# EAGLE library part NE5534 (library common)
Low-noise, high-SP audio Op Amp.
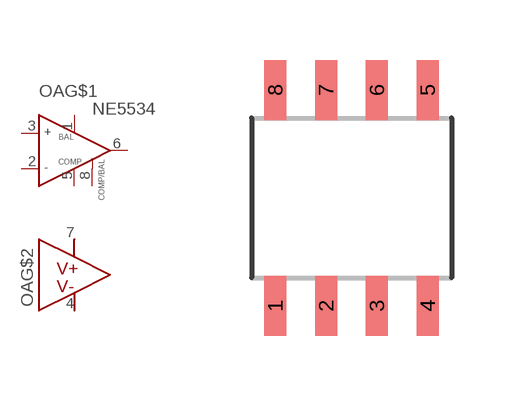
[diagram p0: symbol with the pads of SOIC-8; footprint SOIC-8]

Designator prefix OA; gates G$1=OPAMP1 G$2=OPAMP_PWR

## NE5534SOIC8, NE5534ADSOIC8 (BIAS_CURRENT: 500nA; CMRR: 100dB; GAIN_BANDWIDTH_PRODUCT: 10MHz; IN-VOL_NOISE_DENSITY: 3.5nV; OFFSET_VOL: 500uV; OUTPUT_CURRENT: 38mA; SLEW_RATE: 13V/uS; SUPPLY_CURRENT: 4mA; SUPPLY_VOL_MAX: 30V; SUPPLY_VOL_MIN: 10V), NE5534DSOIC8 (BIAS_CURRENT: 1.5uA; CMRR: 100dB; GAIN_BANDWIDTH_PRODUCT: 10MHz; IN-VOL_NOISE_DENSITY: 3.5nV; OFFSET_VOL: 4mV; OUTPUT_CURRENT: 38mA; SLEW_RATE: 13V/uS; SUPPLY_CURRENT: 4mA; SUPPLY_VOL_MAX: 30V; SUPPLY_VOL_MIN: 10V)  [SOIC-8]
1  G$1:BAL
2  G$1:IN-
3  G$1:IN+
4  G$2:V-  pwr
5  G$1:COMP
6  G$1:OUT
7  G$2:V+  pwr
8  G$1:COMP/BAL

## Footprint SOIC-8 (pad centres in mm)
smd 0.55 x 1.5: 1 -1.905,-2.7; 2 -0.635,-2.7; 3 0.635,-2.7; 4 1.905,-2.7; 5 1.905,2.7; 6 0.635,2.7; 7 -0.635,2.7; 8 -1.905,2.7